# EAGLE library part WL-OCTR_DIP6_ZC (library WL-OCTR)
WL-OCTR DIP-6 Characteristics Zero-Cross and Non-Zero Cross (Random Phase) Type Different trigger currents and peak off-state voltages available High isolation voltage VDE, UL and CQC certified Applications White goods AC motor drivers Industrial controls Static power switches Temperature controls Light controls <https://www.we-online.com/components/media/o772556v209%20multi-WL-OCTR-DIP6-Standard.jpg> Details see: www.we-online.com/components/products/WL-OCTR-DIP-6 <www.we-online.com/catalog/WL-OCTR-DIP-6/?utm_source=eagle_model&utm_medium=description_link&utm_campaign=eisos_eagle> Created by Ella Wu 2024-04-11 2024 (C) Wurth Elektronik
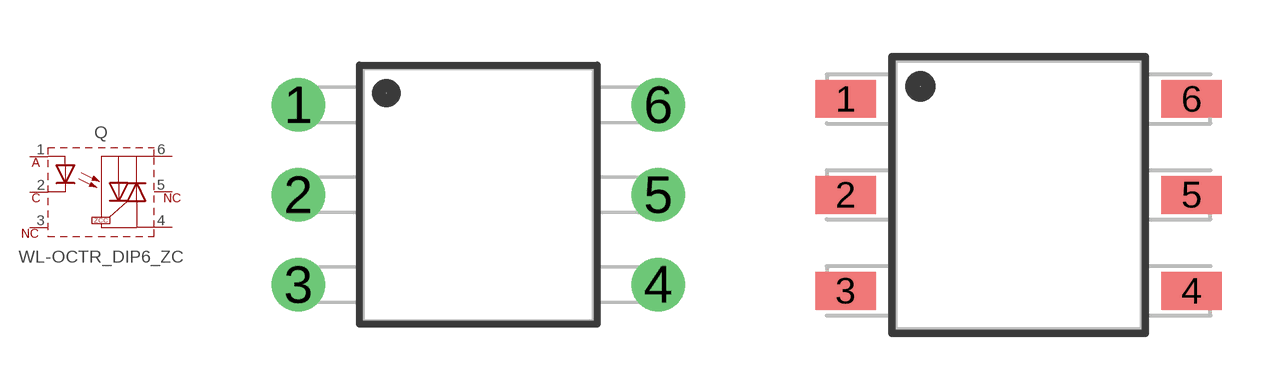
[diagram p0: symbol with the pads of WL-OCTR_DIP6_M-TYPE; footprints WL-OCTR_DIP6_M-TYPE, WL-OCTR_DIP6_SL-TYPE]

Designator prefix Q

## WL-OCTR_DIP6_ZC_14230316111_M-TYPE (DATASHEET-URL: https://www.we-online.com/redexpert/spec/14230316111?ae; IFT: 15mA; MOUNT: THT; PACKAGE-TYPE: DIP-6_M-Type; PART-NUMBER: 14230316111; TYPE: Zero Cross; VALUE: 14230316111; VDRM: 250V; VF-TYP: 1.24V; VISO: 5000V(RMS)), WL-OCTR_DIP6_ZC_14230326111_M-TYPE (DATASHEET-URL: https://www.we-online.com/redexpert/spec/14230326111?ae; IFT: 10mA; MOUNT: THT; PACKAGE-TYPE: DIP-6_M-Type; PART-NUMBER: 14230326111; TYPE: Zero Cross; VALUE: 14230326111; VDRM: 250V; VF-TYP: 1.24V; VISO: 5000V(RMS)), WL-OCTR_DIP6_ZC_14230336111_M-TYPE (DATASHEET-URL: https://www.we-online.com/redexpert/spec/14230336111?ae; IFT: 5mA; MOUNT: THT; PACKAGE-TYPE: DIP-6_M-Type; PART-NUMBER: 14230336111; TYPE: Zero Cross; VALUE: 14230336111; VDRM: 250V; VF-TYP: 1.24V; VISO: 5000V(RMS)), WL-OCTR_DIP6_ZC_14230416111_M-TYPE (DATASHEET-URL: https://www.we-online.com/redexpert/spec/14230416111?ae; IFT: 15mA; MOUNT: THT; PACKAGE-TYPE: DIP-6_M-Type; PART-NUMBER: 14230416111; TYPE: Zero Cross; VALUE: 14230416111; VDRM: 400V; VF-TYP: 1.24V; VISO: 5000V(RMS)), WL-OCTR_DIP6_ZC_14230426111_M-TYPE (DATASHEET-URL: https://www.we-online.com/redexpert/spec/14230426111?ae; IFT: 10mA; MOUNT: THT; PACKAGE-TYPE: DIP-6_M-Type; PART-NUMBER: 14230426111; TYPE: Zero Cross; VALUE: 14230426111; VDRM: 400V; VF-TYP: 1.24V; VISO: 5000V(RMS)), WL-OCTR_DIP6_ZC_14230436111_M-TYPE (DATASHEET-URL: https://www.we-online.com/redexpert/spec/14230436111?ae; IFT: 5mA; MOUNT: THT; PACKAGE-TYPE: DIP-6_M-Type; PART-NUMBER: 14230436111; TYPE: Zero Cross; VALUE: 14230436111; VDRM: 400V; VF-TYP: 1.24V; VISO: 5000V(RMS)), WL-OCTR_DIP6_ZC_14230616111_M-TYPE (DATASHEET-URL: https://www.we-online.com/redexpert/spec/14230616111?ae; IFT: 15mA; MOUNT: THT; PACKAGE-TYPE: DIP-6_M-Type; PART-NUMBER: 14230616111; TYPE: Zero Cross; VALUE: 14230616111; VDRM: 600V; VF-TYP: 1.24V; VISO: 5000V(RMS)), WL-OCTR_DIP6_ZC_14230626111_M-TYPE (DATASHEET-URL: https://www.we-online.com/redexpert/spec/14230626111?ae; IFT: 10mA; MOUNT: THT; PACKAGE-TYPE: DIP-6_M-Type; PART-NUMBER: 14230626111; TYPE: Zero Cross; VALUE: 14230626111; VDRM: 600V; VF-TYP: 1.24V; VISO: 5000V(RMS)), WL-OCTR_DIP6_ZC_14230636111_M-TYPE (DATASHEET-URL: https://www.we-online.com/redexpert/spec/14230636111?ae; IFT: 5mA; MOUNT: THT; PACKAGE-TYPE: DIP-6_M-Type; PART-NUMBER: 14230636111; TYPE: Zero Cross; VALUE: 14230636111; VDRM: 600V; VF-TYP: 1.24V; VISO: 5000V(RMS))  [WL-OCTR_DIP6_M-TYPE]
1  1  pas
2  2  pas
3  3  pas
4  4  pas
5  5  pas
6  6  pas

## WL-OCTR_DIP6_ZC_14230316301_SL-TYPE (DATASHEET-URL: https://www.we-online.com/redexpert/spec/14230316301?ae; IFT: 15mA; MOUNT: SMT; PACKAGE-TYPE: DIP-6_SL-Type; PART-NUMBER: 14230316301; TYPE: Zero Cross; VALUE: 14230316301; VDRM: 250V; VF-TYP: 1.24V; VISO: 5000V(RMS)), WL-OCTR_DIP6_ZC_14230326301_SL-TYPE (DATASHEET-URL: https://www.we-online.com/redexpert/spec/14230326301?ae; IFT: 10mA; MOUNT: SMT; PACKAGE-TYPE: DIP-6_SL-Type; PART-NUMBER: 14230326301; TYPE: Zero Cross; VALUE: 14230326301; VDRM: 250V; VF-TYP: 1.24V; VISO: 5000V(RMS)), WL-OCTR_DIP6_ZC_14230336301_SL-TYPE (DATASHEET-URL: https://www.we-online.com/redexpert/spec/14230336301?ae; IFT: 5mA; MOUNT: SMT; PACKAGE-TYPE: DIP-6_SL-Type; PART-NUMBER: 14230336301; TYPE: Zero Cross; VALUE: 14230336301; VDRM: 250V; VF-TYP: 1.24V; VISO: 5000V(RMS)), WL-OCTR_DIP6_ZC_14230416301_SL-TYPE (DATASHEET-URL: https://www.we-online.com/redexpert/spec/14230416301?ae; IFT: 15mA; MOUNT: SMT; PACKAGE-TYPE: DIP-6_SL-Type; PART-NUMBER: 14230416301; TYPE: Zero Cross; VALUE: 14230416301; VDRM: 400V; VF-TYP: 1.24V; VISO: 5000V(RMS)), WL-OCTR_DIP6_ZC_14230426301_SL-TYPE (DATASHEET-URL: https://www.we-online.com/redexpert/spec/14230426301?ae; IFT: 10mA; MOUNT: SMT; PACKAGE-TYPE: DIP-6_SL-Type; PART-NUMBER: 14230426301; TYPE: Zero Cross; VALUE: 14230426301; VDRM: 400V; VF-TYP: 1.24V; VISO: 5000V(RMS)), WL-OCTR_DIP6_ZC_14230436301_SL-TYPE (DATASHEET-URL: https://www.we-online.com/redexpert/spec/14230436301?ae; IFT: 5mA; MOUNT: SMT; PACKAGE-TYPE: DIP-6_SL-Type; PART-NUMBER: 14230436301; TYPE: Zero Cross; VALUE: 14230436301; VDRM: 400V; VF-TYP: 1.24V; VISO: 5000V(RMS)), WL-OCTR_DIP6_ZC_14230616301_SL-TYPE (DATASHEET-URL: https://www.we-online.com/redexpert/spec/14230616301?ae; IFT: 15mA; MOUNT: SMT; PACKAGE-TYPE: DIP-6_SL-Type; PART-NUMBER: 14230616301; TYPE: Zero Cross; VALUE: 14230616301; VDRM: 600V; VF-TYP: 1.24V; VISO: 5000V(RMS)), WL-OCTR_DIP6_ZC_14230626301_SL-TYPE (DATASHEET-URL: https://www.we-online.com/redexpert/spec/14230626301?ae; IFT: 10mA; MOUNT: SMT; PACKAGE-TYPE: DIP-6_SL-Type; PART-NUMBER: 14230626301; TYPE: Zero Cross; VALUE: 14230626301; VDRM: 600V; VF-TYP: 1.24V; VISO: 5000V(RMS)), WL-OCTR_DIP6_ZC_14230636301_SL-TYPE (DATASHEET-URL: https://www.we-online.com/redexpert/spec/14230636301?ae; IFT: 5mA; MOUNT: SMT; PACKAGE-TYPE: DIP-6_SL-Type; PART-NUMBER: 14230636301; TYPE: Zero Cross; VALUE: 14230636301; VDRM: 600V; VF-TYP: 1.24V; VISO: 5000V(RMS))  [WL-OCTR_DIP6_SL-TYPE]
Pads as for WL-OCTR_DIP6_M-TYPE

## WL-OCTR_DIP6_ZC_14230316011_STANDARD (DATASHEET-URL: https://www.we-online.com/redexpert/spec/14230316011?ae; IFT: 15mA; MOUNT: THT; PACKAGE-TYPE: DIP-6_Standard; PART-NUMBER: 14230316011; TYPE: Zero Cross; VALUE: 14230316011; VDRM: 250V; VF-TYP: 1.24V; VISO: 5000V(RMS)), WL-OCTR_DIP6_ZC_14230326011_STANDARD (DATASHEET-URL: https://www.we-online.com/redexpert/spec/14230326011?ae; IFT: 10mA; MOUNT: THT; PACKAGE-TYPE: DIP-6_Standard; PART-NUMBER: 14230326011; TYPE: Zero Cross; VALUE: 14230326011; VDRM: 250V; VF-TYP: 1.24V; VISO: 5000V(RMS)), WL-OCTR_DIP6_ZC_14230336011_STANDARD (DATASHEET-URL: https://www.we-online.com/redexpert/spec/14230336011?ae; IFT: 5mA; MOUNT: THT; PACKAGE-TYPE: DIP-6_Standard; PART-NUMBER: 14230336011; TYPE: Zero Cross; VALUE: 14230336011; VDRM: 250V; VF-TYP: 1.24V; VISO: 5000V(RMS)), WL-OCTR_DIP6_ZC_14230416011_STANDARD (DATASHEET-URL: https://www.we-online.com/redexpert/spec/14230416011?ae; IFT: 15mA; MOUNT: THT; PACKAGE-TYPE: DIP-6_Standard; PART-NUMBER: 14230416011; TYPE: Zero Cross; VALUE: 14230416011; VDRM: 400V; VF-TYP: 1.24V; VISO: 5000V(RMS)), WL-OCTR_DIP6_ZC_14230426011_STANDARD (DATASHEET-URL: https://www.we-online.com/redexpert/spec/14230426011?ae; IFT: 10mA; MOUNT: THT; PACKAGE-TYPE: DIP-6_Standard; PART-NUMBER: 14230426011; TYPE: Zero Cross; VALUE: 14230426011; VDRM: 400V; VF-TYP: 1.24V; VISO: 5000V(RMS)), WL-OCTR_DIP6_ZC_14230436011_STANDARD (DATASHEET-URL: https://www.we-online.com/redexpert/spec/14230436011?ae; IFT: 5mA; MOUNT: THT; PACKAGE-TYPE: DIP-6_Standard; PART-NUMBER: 14230436011; TYPE: Zero Cross; VALUE: 14230436011; VDRM: 400V; VF-TYP: 1.24V; VISO: 5000V(RMS)), WL-OCTR_DIP6_ZC_14230616011_STANDARD (DATASHEET-URL: https://www.we-online.com/redexpert/spec/14230616011?ae; IFT: 15mA; MOUNT: THT; PACKAGE-TYPE: DIP-6_Standard; PART-NUMBER: 14230616011; TYPE: Zero Cross; VALUE: 14230616011; VDRM: 600V; VF-TYP: 1.24V; VISO: 5000V(RMS)), WL-OCTR_DIP6_ZC_14230626011_STANDARD (DATASHEET-URL: https://www.we-online.com/redexpert/spec/14230626011?ae; IFT: 10mA; MOUNT: THT; PACKAGE-TYPE: DIP-6_Standard; PART-NUMBER: 14230626011; TYPE: Zero Cross; VALUE: 14230626011; VDRM: 600V; VF-TYP: 1.24V; VISO: 5000V(RMS)), WL-OCTR_DIP6_ZC_14230636011_STANDARD (DATASHEET-URL: https://www.we-online.com/redexpert/spec/14230636011?ae; IFT: 5mA; MOUNT: THT; PACKAGE-TYPE: DIP-6_Standard; PART-NUMBER: 14230636011; TYPE: Zero Cross; VALUE: 14230636011; VDRM: 600V; VF-TYP: 1.24V; VISO: 5000V(RMS))  [WL-OCTR_DIP6_STANDARD]
Pads as for WL-OCTR_DIP6_M-TYPE

## Footprint WL-OCTR_DIP6_M-TYPE (pad centres in mm)
WL-OCTR Optocoupler Triac Size : DIP 6 M-Type, THT, 6pins
drill 1: 1 -5.08,2.54; 2 -5.08,0; 3 -5.08,-2.54; 4 5.08,-2.54; 5 5.08,0; 6 5.08,2.54

## Footprint WL-OCTR_DIP6_SL-TYPE (pad centres in mm)
WL-OCTR Optocoupler Triac Size : DIP 6 SL-Type, SMT, 6pins
smd 1.6 x 1: 1 -4.575,2.54; 2 -4.575,0; 3 -4.575,-2.54; 4 4.575,-2.54; 5 4.575,0; 6 4.575,2.54

## Footprint WL-OCTR_DIP6_STANDARD (pad centres in mm)
WL-OCTR Optocoupler Triac Size : DIP 6 Standard, THT, 6pins
drill 1: 1 -3.81,2.54; 2 -3.81,0; 3 -3.81,-2.54; 4 3.81,-2.54; 5 3.81,0; 6 3.81,2.54